# EAGLE library part SN74LVC1G11 (library di_ic)
Single 3-Input Positive-And Gate. Reference: http://focus.ti.com/lit/ds/symlink/sn74lvc1g11.pdf
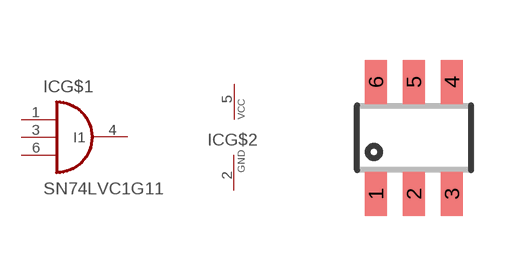
[diagram p35: symbol with the pads of SOT23-6; footprint SOT23-6]

Designator prefix IC; gates G$1=3-INPUT_POSITIVE-AND G$2=VCC-GND

## SN74LVC1G11  [SOT23-6]
1  G$1:I0  in
2  G$2:GND  pwr
3  G$1:I1  in
4  G$1:O  out
5  G$2:VCC  pwr
6  G$1:I2  in

## Footprint SOT23-6 (pad centres in mm)
Small Outline Transistor
smd 0.55 x 1.1: 1 -0.95,-1.4; 2 0,-1.4; 3 0.95,-1.4; 4 0.95,1.4; 5 0,1.4; 6 -0.95,1.4